# EAGLE library part AGQ20003 (library maholli)
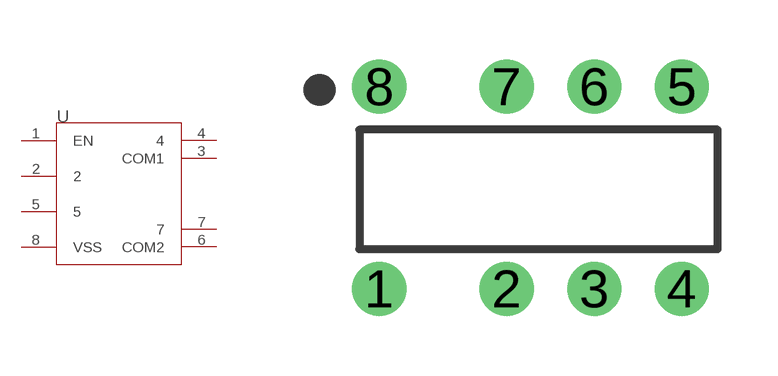
[diagram p21: symbol with the pads of AGQ20003; footprint AGQ20003]

Designator prefix U

## AGQ20003  [AGQ20003]
1  EN
2  2
3  COM1
4  4
5  5
6  COM2
7  7
8  VSS

## Footprint AGQ20003 (pad centres in mm)
drill 0.85: 1 0,0; 2 3.2,0; 3 5.4,0; 4 7.6,0; 5 7.6,5.08; 6 5.4,5.08; 7 3.2,5.08; 8 0,5.08